# Altium footprint library Basic_lib.PcbLib: 20 footprints (part 1 of 2)
Each footprint in its own frame and in the unit in brackets; x right, y up, seen from the top. Pads: shape width x height; smd on the part's side, far side on the other; paste and mask are expansions set on the pad; w line width, h text height; cw(c..) or ccw(c..) is an arc to the next point about the centre after c.
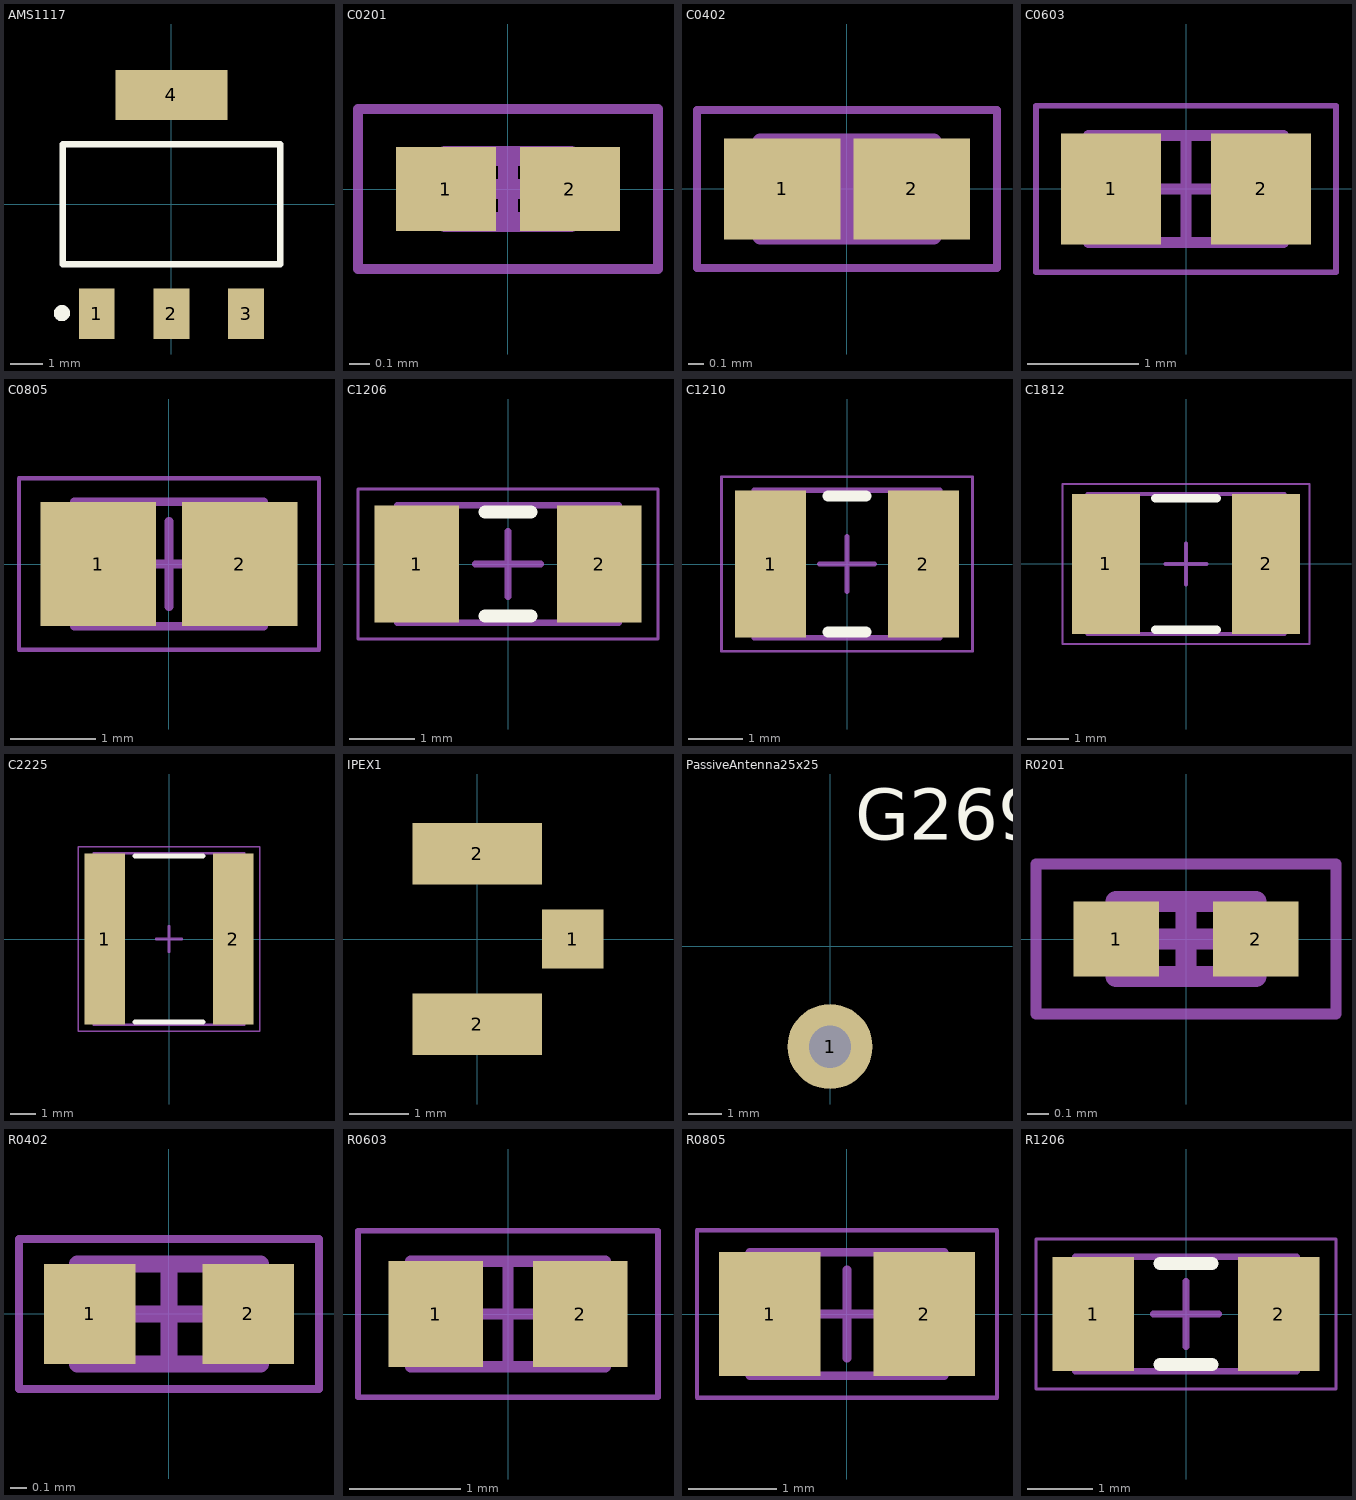
[diagram p0: the footprints below, top view; thin cyan lines are the x and y axes]

## AMS1117 [mm] "SOT-223"
height 1.8
pads (4):
  rect 1.1x1.55 smd: 1(-2.3,-3.375) 2(0,-3.375) 3(2.3,-3.375)
  rect 3.45x1.55 smd: 4(0,3.375)
Top Overlay:
  circle w0.25: c-3.376,-3.353 r0.125
  lines w0.2: -3.35,-1.85 3.35,-1.85 3.35,1.85 -3.35,1.85 -3.35,-1.85
3D body: height 0.3, standoff 0, extent 1.841,-3.937 2.73,-2.032
3D body: height 0.3, standoff 0, extent -0.445,-3.937 0.445,-2.032
3D body: height 0.3, standoff 0, extent -2.73,-3.937 -1.841,-2.032
3D body: height 0.3, standoff 0, extent -1.651,2.159 1.651,3.429
3D body: height 0.8, standoff 0, extent -3.302,-2.032 3.302,2.159

## C0201 [mm] "Chip Capacitor, 2-Leads, Body 0.60x0.30mm, IPC Medium Density"
height 0.5
pads (2):
  rect 0.5x0.42 smd: 1(-0.31,0) 2(0.31,0)
Mechanical 13:
  lines w0.1: -0.315,-0.165 0.315,-0.165 0.315,0.165 -0.315,0.165 -0.315,-0.165
Mechanical 15:
  lines w0.05: -0.75,-0.4 0.75,-0.4 0.75,0.4 -0.75,0.4 -0.75,-0.4
  lines w0.1: -0.165,0 0.165,0 ; 0,-0.165 0,0.165
3D body: height 0.5, standoff 0, extent 0.165,-0.165 0.315,0.165
3D body: height 0.5, standoff 0, extent -0.315,-0.165 -0.165,0.165
3D body: height 0.5, standoff 0, extent -0.165,-0.165 0.165,0.165

## C0402 [mm] "Chip Capacitor, 2-Leads, Body 1.00x0.50mm, IPC Medium Density"
height 0.5
pads (2):
  rect 0.74x0.64 smd: 1(-0.41,0) 2(0.41,0)
Mechanical 13:
  lines w0.1: -0.55,-0.3 0.55,-0.3 0.55,0.3 -0.55,0.3 -0.55,-0.3
Mechanical 15:
  lines w0.05: -0.95,-0.5 0.95,-0.5 0.95,0.5 -0.95,0.5 -0.95,-0.5
  lines w0.1: -0.3,0 0.3,0 ; 0,-0.3 0,0.3
3D body: height 0.5, standoff 0, extent 0.3,-0.3 0.55,0.3
3D body: height 0.5, standoff 0, extent -0.55,-0.3 -0.3,0.3
3D body: height 0.5, standoff 0, extent -0.3,-0.3 0.3,0.3

## C0603 [mm] "Chip Capacitor, 2-Leads, Body 1.60x0.81mm, IPC Medium Density"
height 0.9
pads (2):
  rect 0.9x1 smd: 1(-0.675,0) 2(0.675,0)
Mechanical 13:
  lines w0.1: -0.875,-0.48 0.875,-0.48 0.875,0.48 -0.875,0.48 -0.875,-0.48
Mechanical 15:
  lines w0.05: -1.35,-0.75 1.35,-0.75 1.35,0.75 -1.35,0.75 -1.35,-0.75
  lines w0.1: -0.48,0 0.48,0 ; 0,-0.48 0,0.48
3D body: height 0.9, standoff 0, extent 0.525,-0.48 0.875,0.48
3D body: height 0.9, standoff 0, extent -0.875,-0.48 -0.525,0.48
3D body: height 0.9, standoff 0, extent -0.525,-0.48 0.525,0.48

## C0805 [mm] "Chip Capacitor, 2-Leads, Body 2.01x1.25mm, IPC Medium Density"
height 0.9
pads (2):
  rect 1.35x1.45 smd: 1(-0.825,0) 2(0.825,0)
Mechanical 13:
  lines w0.1: -1.105,-0.725 1.105,-0.725 1.105,0.725 -1.105,0.725 -1.105,-0.725
Mechanical 15:
  lines w0.05: -1.75,-1 1.75,-1 1.75,1 -1.75,1 -1.75,-1
  lines w0.1: -0.5,0 0.5,0 ; 0,-0.5 0,0.5
3D body: height 0.9, standoff 0, extent 0.605,-0.725 1.105,0.725
3D body: height 0.9, standoff 0, extent -1.105,-0.725 -0.605,0.725
3D body: height 0.9, standoff 0, extent -0.605,-0.725 0.605,0.725

## C1206 [mm] "Chip Capacitor, 2-Leads, Body 3.20x1.60mm, IPC Medium Density"
height 0.9
pads (2):
  rect 1.3x1.8 smd: 1(-1.4,0) 2(1.4,0)
Top Overlay:
  lines w0.2: -0.35,-0.8 0.35,-0.8 ; -0.35,0.8 0.35,0.8
Mechanical 13:
  lines w0.1: -1.7,-0.9 1.7,-0.9 1.7,0.9 -1.7,0.9 -1.7,-0.9
Mechanical 15:
  lines w0.05: -2.3,-1.15 2.3,-1.15 2.3,1.15 -2.3,1.15 -2.3,-1.15
  lines w0.1: -0.5,0 0.5,0 ; 0,-0.5 0,0.5
3D body: height 0.9, standoff 0, extent 1.2,-0.9 1.7,0.9
3D body: height 0.9, standoff 0, extent -1.7,-0.9 -1.2,0.9
3D body: height 0.9, standoff 0, extent -1.2,-0.9 1.2,0.9

## C1210 [mm] "Chip Capacitor, 2-Leads, Body 3.20x2.50mm, IPC Medium Density"
height 0.95
pads (2):
  rect 1.3x2.7 smd: 1(-1.4,0) 2(1.4,0)
Top Overlay:
  lines w0.2: -0.35,-1.25 0.35,-1.25 ; -0.35,1.25 0.35,1.25
Mechanical 13:
  lines w0.1: -1.7,-1.35 1.7,-1.35 1.7,1.35 -1.7,1.35 -1.7,-1.35
Mechanical 15:
  lines w0.05: -2.3,-1.6 2.3,-1.6 2.3,1.6 -2.3,1.6 -2.3,-1.6
  lines w0.1: -0.5,0 0.5,0 ; 0,-0.5 0,0.5
3D body: height 0.95, standoff 0, extent 1.2,-1.35 1.7,1.35
3D body: height 0.95, standoff 0, extent -1.7,-1.35 -1.2,1.35
3D body: height 0.95, standoff 0, extent -1.2,-1.35 1.2,1.35

## C1812 [mm] "Chip Capacitor, 2-Leads, Body 4.50x3.20mm, IPC Medium Density"
height 0.95
pads (2):
  rect 1.65x3.4 smd: 1(-1.95,0) 2(1.95,0)
Top Overlay:
  lines w0.2: -0.75,-1.6 0.75,-1.6 ; -0.75,1.6 0.75,1.6
Mechanical 13:
  lines w0.1: -2.4,-1.7 2.4,-1.7 2.4,1.7 -2.4,1.7 -2.4,-1.7
Mechanical 15:
  lines w0.05: -3,-1.95 3,-1.95 3,1.95 -3,1.95 -3,-1.95
  lines w0.1: -0.5,0 0.5,0 ; 0,-0.5 0,0.5
3D body: height 0.95, standoff 0, extent 1.79,-1.7 2.4,1.7
3D body: height 0.95, standoff 0, extent -2.4,-1.7 -1.79,1.7
3D body: height 0.95, standoff 0, extent -1.79,-1.7 1.79,1.7

## C2225 [mm] "Chip Capacitor, 2-Leads, Body 5.72x6.40mm, IPC Medium Density"
height 2.5
pads (2):
  rect 1.6x6.8 smd: 1(-2.55,0) 2(2.55,0)
Top Overlay:
  lines w0.2: -1.35,-3.3 1.35,-3.3 ; -1.35,3.3 1.35,3.3
Mechanical 13:
  lines w0.1: -2.985,-3.4 2.985,-3.4 2.985,3.4 -2.985,3.4 -2.985,-3.4
Mechanical 15:
  lines w0.05: -3.6,-3.65 3.6,-3.65 3.6,3.65 -3.6,3.65 -3.6,-3.65
  lines w0.1: -0.5,0 0.5,0 ; 0,-0.5 0,0.5
3D body: height 2.5, standoff 0, extent 2.375,-3.4 2.985,3.4
3D body: height 2.5, standoff 0, extent -2.985,-3.4 -2.375,3.4
3D body: height 2.5, standoff 0, extent -2.375,-3.4 2.375,3.4

## IPEX1 [mm] "IPEX1"
height 2.5
pads (3):
  rect 1.05x1 smd: 1(1.626,0)
  rect 2.2x1.05 smd: 2(0,-1.448) 2(0,1.45)
3D body: height 2.5, standoff 0, extent -1.1,-0.95 1.1,0.95

## PassiveAntenna25x25 [mm] "无源天线25x25"
height 4
pads (1):
  round 2.54 hole 1.27: 1(0,-3)
Top Overlay:
  text "G269" at 0.762,3.175 h1.52
3D body: height 4, standoff 0, extent -12.7,-12.7 12.7,12.7

## R0201 [mm] "Chip Resistor, 2-Leads, Body 0.60x0.30mm, IPC Medium Density"
height 0.28
pads (2):
  rect 0.4x0.35 smd: 1(-0.325,0) 2(0.325,0)
Mechanical 13:
  lines w0.1: -0.325,-0.175 -0.325,0.175 0.325,0.175 0.325,-0.175 -0.325,-0.175
Mechanical 15:
  lines w0.05: -0.7,-0.35 -0.7,0.35 0.7,0.35 0.7,-0.35 -0.7,-0.35
  lines w0.1: -0.175,0 0.175,0 ; 0,-0.175 0,0.175
3D body: height 0.28, standoff 0, extent -0.225,-0.175 0.225,0.175
3D body: height 0.28, standoff 0, extent -0.325,-0.175 -0.225,0.175
3D body: height 0.28, standoff 0, extent 0.225,-0.175 0.325,0.175

## R0402 [mm] "Chip Resistor, 2-Leads, Body 1.00x0.50mm, IPC Medium Density"
height 0.4
pads (2):
  rect 0.55x0.6 smd: 1(-0.475,0) 2(0.475,0)
Mechanical 13:
  lines w0.1: -0.55,-0.3 -0.55,0.3 0.55,0.3 0.55,-0.3 -0.55,-0.3
Mechanical 15:
  lines w0.05: -0.9,-0.45 -0.9,0.45 0.9,0.45 0.9,-0.45 -0.9,-0.45
  lines w0.1: -0.3,0 0.3,0 ; 0,-0.3 0,0.3
3D body: height 0.4, standoff 0, extent -0.35,-0.3 0.35,0.3
3D body: height 0.4, standoff 0, extent -0.55,-0.3 -0.35,0.3
3D body: height 0.4, standoff 0, extent 0.35,-0.3 0.55,0.3

## R0603 [mm] "Chip Resistor, 2-Leads, Body 1.60x0.80mm, IPC Medium Density"
height 0.5
pads (2):
  rect 0.85x0.95 smd: 1(-0.65,0) 2(0.65,0)
Mechanical 13:
  lines w0.1: -0.875,-0.475 0.875,-0.475 0.875,0.475 -0.875,0.475 -0.875,-0.475
Mechanical 15:
  lines w0.05: -1.35,-0.75 1.35,-0.75 1.35,0.75 -1.35,0.75 -1.35,-0.75
  lines w0.1: -0.475,0 0.475,0 ; 0,-0.475 0,0.475
3D body: height 0.5, standoff 0, extent 0.575,-0.475 0.875,0.475
3D body: height 0.5, standoff 0, extent -0.875,-0.475 -0.575,0.475
3D body: height 0.5, standoff 0, extent -0.575,-0.475 0.575,0.475

## R0805 [mm] "Chip Resistor, 2-Leads, Body 2.00x1.25mm, IPC Medium Density"
height 0.6
pads (2):
  rect 1.15x1.4 smd: 1(-0.875,0) 2(0.875,0)
Mechanical 13:
  lines w0.1: -1.1,-0.7 1.1,-0.7 1.1,0.7 -1.1,0.7 -1.1,-0.7
Mechanical 15:
  lines w0.05: -1.7,-0.95 1.7,-0.95 1.7,0.95 -1.7,0.95 -1.7,-0.95
  lines w0.1: -0.5,0 0.5,0 ; 0,-0.5 0,0.5
3D body: height 0.6, standoff 0, extent 0.7,-0.7 1.1,0.7
3D body: height 0.6, standoff 0, extent -1.1,-0.7 -0.7,0.7
3D body: height 0.6, standoff 0, extent -0.7,-0.7 0.7,0.7

## R1206 [mm] "Chip Resistor, 2-Leads, Body 3.20x1.60mm, IPC Medium Density"
height 0.65
pads (2):
  rect 1.25x1.75 smd: 1(-1.425,0) 2(1.425,0)
Top Overlay:
  lines w0.2: -0.4,-0.775 0.4,-0.775 ; -0.4,0.775 0.4,0.775
Mechanical 13:
  lines w0.1: -1.7,-0.875 1.7,-0.875 1.7,0.875 -1.7,0.875 -1.7,-0.875
Mechanical 15:
  lines w0.05: -2.3,-1.15 2.3,-1.15 2.3,1.15 -2.3,1.15 -2.3,-1.15
  lines w0.1: -0.5,0 0.5,0 ; 0,-0.5 0,0.5
3D body: height 0.65, standoff 0, extent 1.2,-0.875 1.7,0.875
3D body: height 0.65, standoff 0, extent -1.7,-0.875 -1.2,0.875
3D body: height 0.65, standoff 0, extent -1.2,-0.875 1.2,0.875